# Altium footprint library MyLib.PcbLib: 1 footprints
Each footprint in its own frame and in the unit in brackets; x right, y up, seen from the top. Pads: shape width x height; smd on the part's side, far side on the other; paste and mask are expansions set on the pad; w line width, h text height; cw(c..) or ccw(c..) is an arc to the next point about the centre after c.
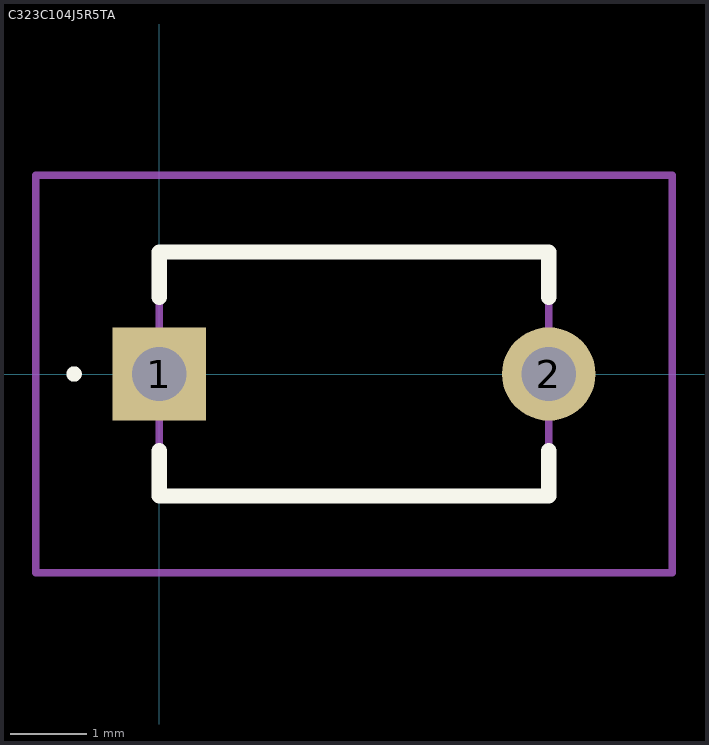
[diagram p0: the footprint, top view; thin cyan lines are the x and y axes]

## C323C104J5R5TA [mm]
pads (2):
  rect 1.217x1.217 hole 0.71: 1(0,0)
  round 1.217 hole 0.71: 2(5.08,0)
Top Overlay:
  lines w0.1: -1.16,0 cw(c-1.11,0) -1.06,0 cw(c-1.11,0) -1.16,0
  lines w0.2: 0,-1 0,-1.59 5.08,-1.59 5.08,-1 ; 0,1 0,1.59 5.08,1.59 5.08,1
Mechanical 13:
  lines w0.1: 0,-1.59 5.08,-1.59 5.08,1.59 0,1.59 0,-1.59
Mechanical 15:
  lines w0.1: -1.609,-2.59 6.689,-2.59 6.689,2.59 -1.609,2.59 -1.609,-2.59
3D body "C323C104J5R5TA.stp": height 8.62, standoff -6, extent -0.305,-1.534 5.385,1.651